# EAGLE library part ABK-PRO-MINI (library Arduino-Clk)
ABK Pro-Mini Arduino Clone
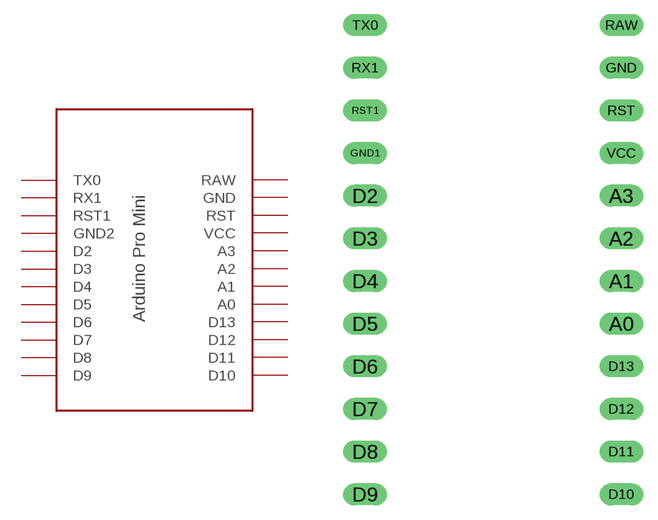
[diagram p1: symbol with the pads of ABK-PRO-MINI; footprint ABK-PRO-MINI]

Designator prefix -

## ABK-PRO-MINI  [ABK-PRO-MINI]
A0  A0
A1  A1
A2  A2
A3  A3
D2  D2
D3  D3
D4  D4
D5  D5
D6  D6
D7  D7
D8  D8
D9  D9
D10  D10
D11  D11
D12  D12
D13  D13
GND  GND
GND1  GND2
RAW  RAW
RST  RST
RST1  RST1
RX1  RX1
TX0  TX0
VCC  VCC

## Footprint ABK-PRO-MINI (pad centres in mm)
ABK-PRO-MINI
drill 0.8 long: A0 10.16,-11.43; A1 10.16,-8.89; A2 10.16,-6.35; A3 10.16,-3.81; D2 -5.08,-3.81; D3 -5.08,-6.35; D4 -5.08,-8.89; D5 -5.08,-11.43; D6 -5.08,-13.97; D7 -5.08,-16.51; D8 -5.08,-19.05; D9 -5.08,-21.59; D10 10.16,-21.59; D11 10.16,-19.05; D12 10.16,-16.51; D13 10.16,-13.97; GND 10.16,3.81; GND1 -5.08,-1.27; RAW 10.16,6.35; RST 10.16,1.27; RST1 -5.08,1.27; RX1 -5.08,3.81; TX0 -5.08,6.35; VCC 10.16,-1.27